# Altium integrated library TI Logic Counter.IntLib: 650 symbols (part 12 of 14)
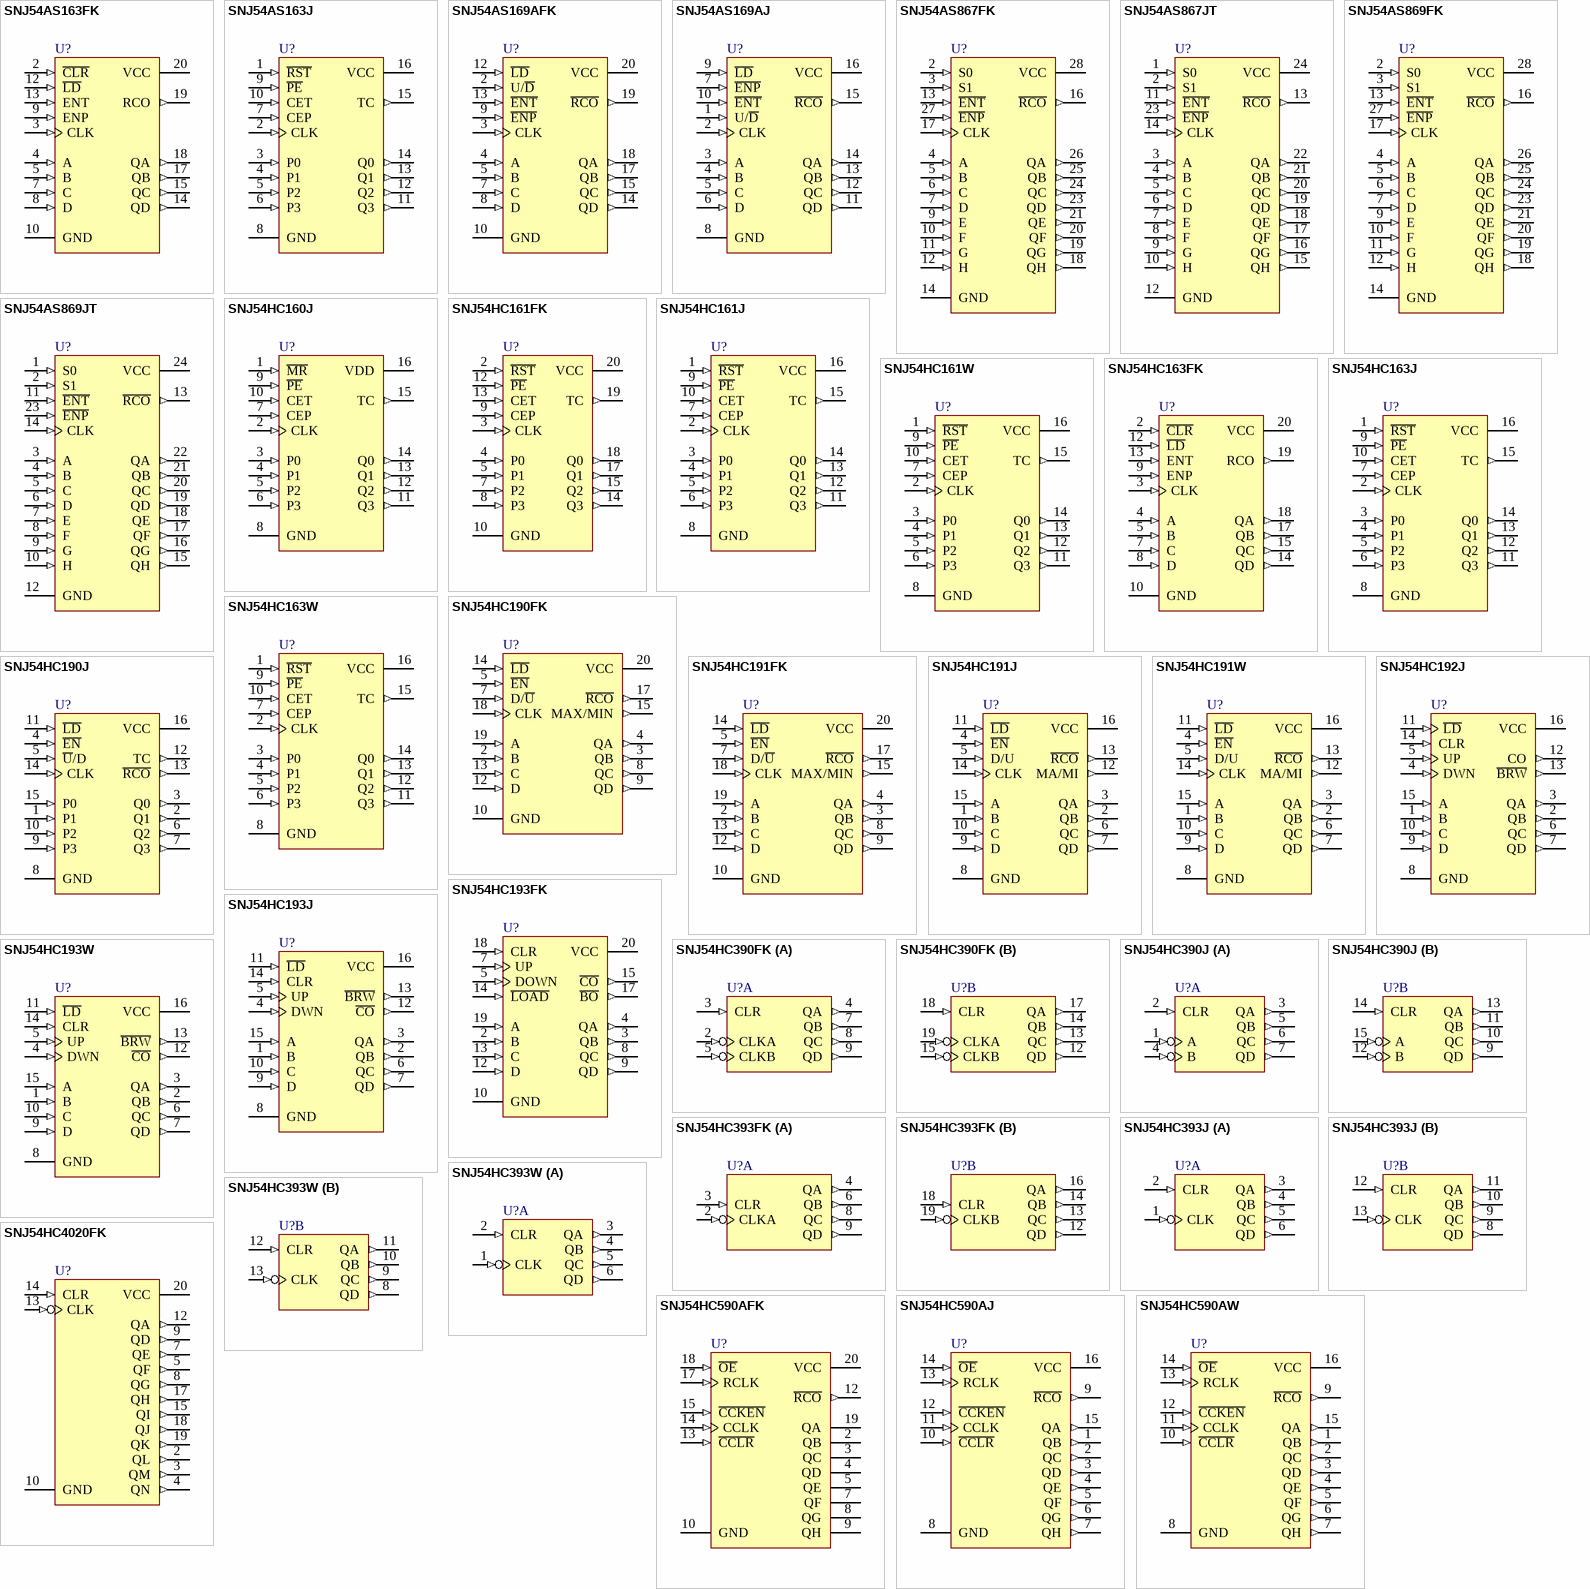
[diagram p31: symbols SNJ54AS163FK to SNJ54HC4020FK]

## SNJ54HC4020FK
designator U?
14-Bit Asynchronous Binary Counter; Note: Pins 1, 6, 11 and 16 - no connection and not drawn.; Published: 8-Jun-2000; LatestRevisionDate: 17-Jul-2002; LatestRevisionNote: Re-released for DXP Platform.; DatasheetVersion: May-1997; PackageVersion: 1998; PackageReference: FK020; Publisher: Altium Limited; PackageDescription: Leadless Chip Carrier; 20 Terminals; Body 8.9 x 8.9 mm; ComponentLink1Description: Manufacturer Link; ComponentLink1URL: http://www.ti.com/; ComponentLink2Description: Datasheet; ComponentLink2URL: http://www-s.ti.com/sc/ds/sn74hc4020.pdf
footprint FK020 (Leadless Chip Carrier; 20 Terminals; Body 8.9 x 8.9 mm)
signal-integrity model SNJ54HC4020FK
pins: 2 QL (out), 3 QM (out), 4 QN (out), 5 QF (out), 7 QE (out), 8 QG (out), 9 QD (out), 10 GND (power), 12 QA (out), 13 CLK (in), 14 CLR (in), 15 QI (out), 17 QH (out), 18 QJ (out), 19 QK (out), 20 VCC (power)

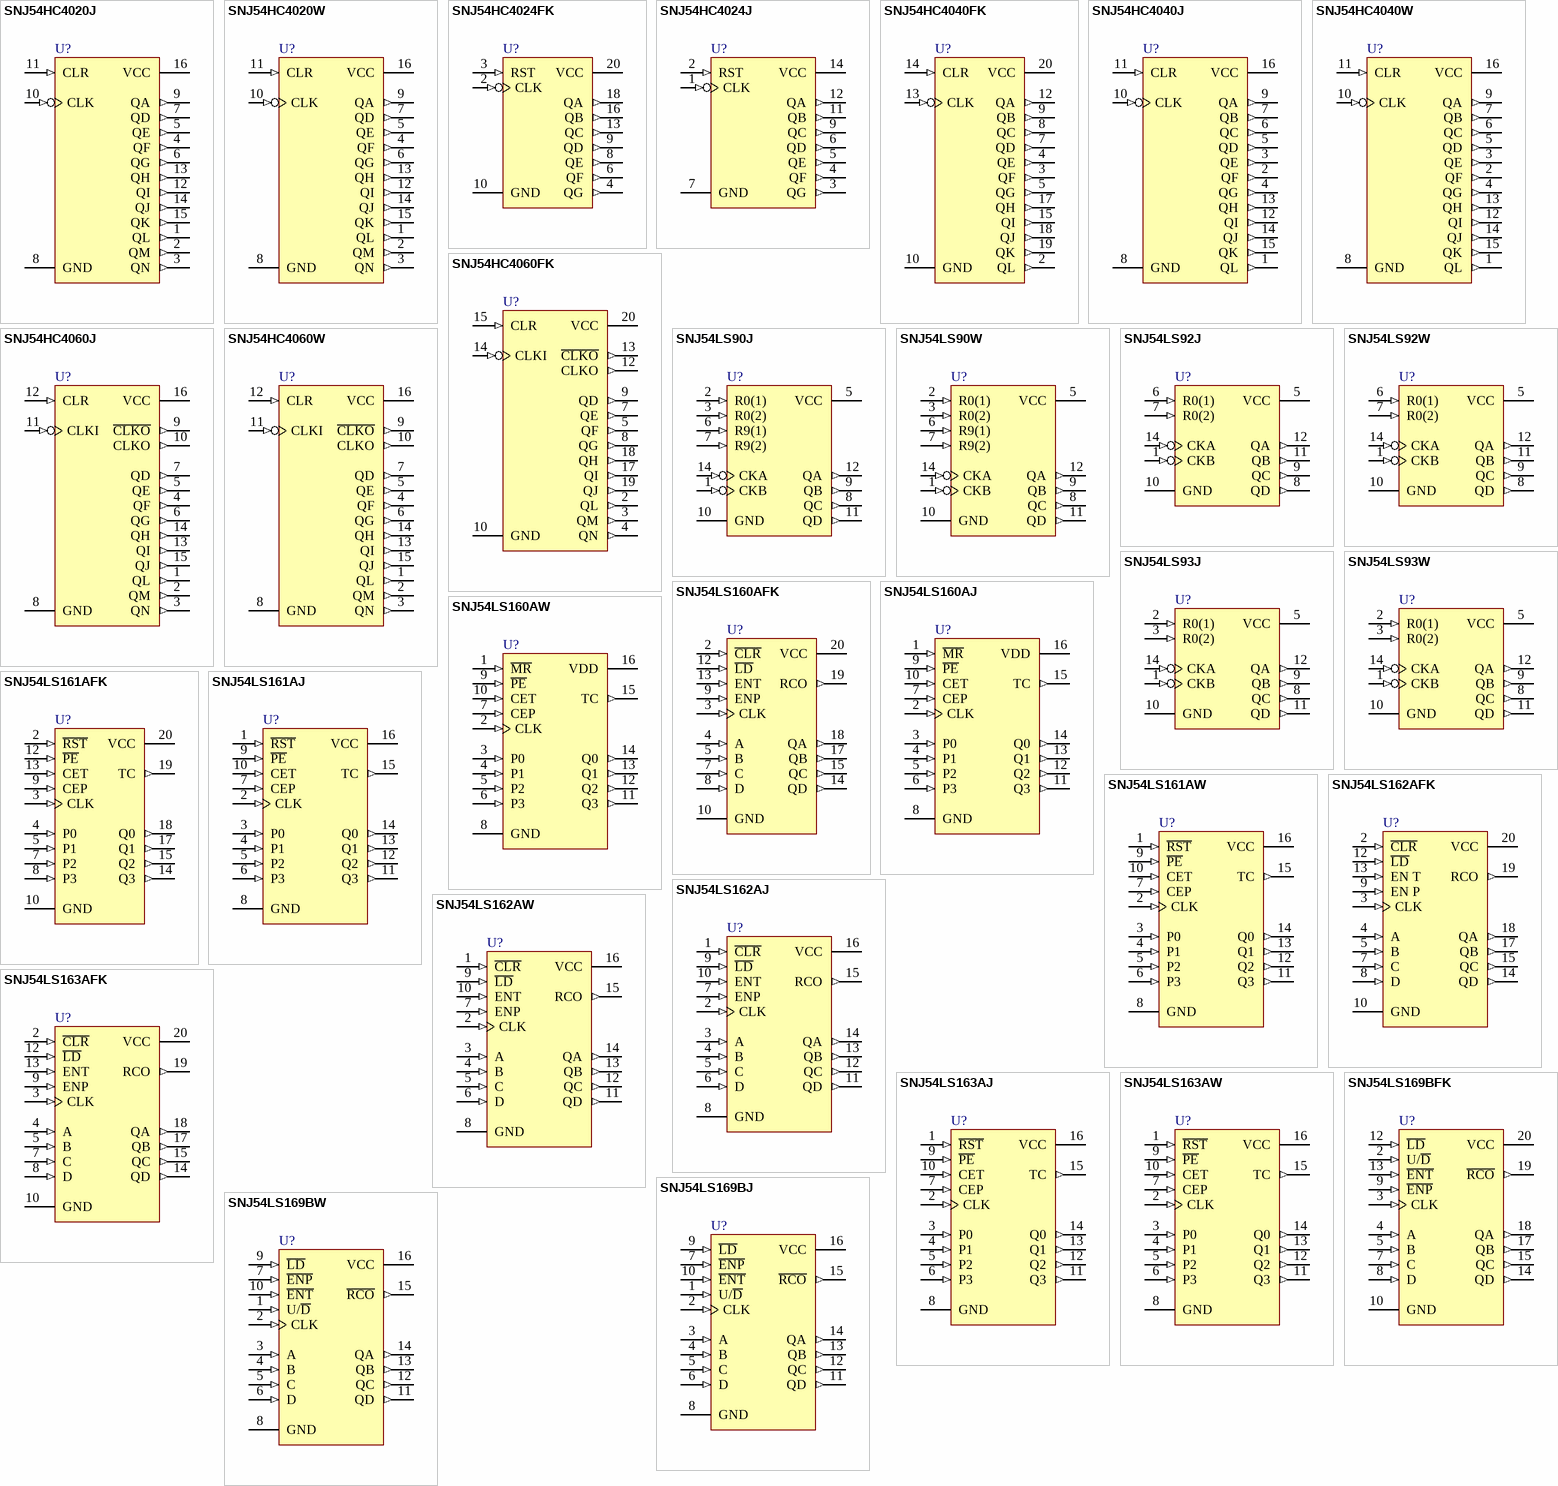
[diagram p17: symbols SNJ54HC4020J to SNJ54LS169BW]

## SNJ54HC4020J
designator U?
14-Bit Asynchronous Binary Counter; Published: 8-Jun-2000; LatestRevisionDate: 04-Mar-2005; LatestRevisionNote: Stylized 3D Model Added.; DatasheetVersion: May-1997; PackageVersion: Jun-1999; PackageReference: J016; Publisher: Altium Limited; PackageDescription: DIP; 16 Leads; Row Spacing 7.62 mm; Pitch 2.54 mm; ComponentLink1Description: Manufacturer Link; ComponentLink1URL: http://www.ti.com/; ComponentLink2Description: Datasheet; ComponentLink2URL: http://www-s.ti.com/sc/ds/sn74hc4020.pdf
footprint J016 (DIP; 16 Leads; Row Spacing 7.62 mm; Pitch 2.54 mm)
3D model J016 (DIP; 16 Leads; Row Spacing 7.62 mm; Pitch 2.54 mm)
signal-integrity model SNJ54HC4020J
pins: 1 QL (out), 2 QM (out), 3 QN (out), 4 QF (out), 5 QE (out), 6 QG (out), 7 QD (out), 8 GND (power), 9 QA (out), 10 CLK (in), 11 CLR (in), 12 QI (out), 13 QH (out), 14 QJ (out), 15 QK (out), 16 VCC (power)

## SNJ54HC4020W
designator U?
14-Bit Asynchronous Binary Counter; Published: 8-Jun-2000; LatestRevisionDate: 04-Mar-2005; LatestRevisionNote: Stylized 3D Model Added.; DatasheetVersion: May-1997; PackageVersion: Jan-1995; PackageReference: W016; Publisher: Altium Limited; PackageDescription: DFP; 16 Leads; Body 10.9 x 7.2 mm (LxW max); Pitch 1.27 mm; Code_JEDEC: MO-092-AC; ComponentLink1Description: Manufacturer Link; ComponentLink1URL: http://www.ti.com/; ComponentLink2Description: Datasheet; ComponentLink2URL: http://www-s.ti.com/sc/ds/sn74hc4020.pdf
footprint W016 (DFP; 16 Leads; Body 10.9 x 7.2 mm (LxW max); Pitch 1.27 mm)
3D model W016 (DFP; 16 Leads; Body 10.9 x 7.2 mm (LxW max); Pitch 1.27 mm)
signal-integrity model SNJ54HC4020W
pins: 1 QL (out), 2 QM (out), 3 QN (out), 4 QF (out), 5 QE (out), 6 QG (out), 7 QD (out), 8 GND (power), 9 QA (out), 10 CLK (in), 11 CLR (in), 12 QI (out), 13 QH (out), 14 QJ (out), 15 QK (out), 16 VCC (power)

## SNJ54HC4024FK
designator U?
Asynchronous 7-Bit Binary Counter; Note: Pins 1, 5, 7, 11, 12, 14, 15 and 17 - no connection and not drawn; Published: 8-Jun-2000; LatestRevisionDate: 17-Jul-2002; LatestRevisionNote: Re-released for DXP Platform.; DatasheetVersion: Jun-1989; PackageVersion: 1998; PackageReference: FK020; Publisher: Altium Limited; PackageDescription: Leadless Chip Carrier; 20 Terminals; Body 8.9 x 8.9 mm; ComponentLink1Description: Manufacturer Link; ComponentLink1URL: http://www.ti.com/; ComponentLink2Description: Datasheet; ComponentLink2URL: http://www-s.ti.com/sc/ds/sn54hc4024.pdf
footprint FK020 (Leadless Chip Carrier; 20 Terminals; Body 8.9 x 8.9 mm)
signal-integrity model SNJ54HC4024FK
pins: 2 CLK (in), 3 RST (in), 4 QG (out), 6 QF (out), 8 QE (out), 9 QD (out), 10 GND (power), 13 QC (out), 16 QB (out), 18 QA (out), 20 VCC (power)

## SNJ54HC4024J
designator U?
Asynchronous 7-Bit Binary Counter; Note: Pins 8, 10 and 13 - no connection and not drawn.; Published: 8-Jun-2000; LatestRevisionDate: 04-Mar-2005; LatestRevisionNote: Stylized 3D Model Added.; DatasheetVersion: Jun-1989; PackageVersion: Jun-1999; PackageReference: J014; Publisher: Altium Limited; PackageDescription: DIP; 14 Leads; Row Spacing 7.62 mm; Pitch 2.54 mm; ComponentLink1Description: Manufacturer Link; ComponentLink1URL: http://www.ti.com/; ComponentLink2Description: Datasheet; ComponentLink2URL: http://www-s.ti.com/sc/ds/sn54hc4024.pdf
footprint J014 (DIP; 14 Leads; Row Spacing 7.62 mm; Pitch 2.54 mm)
3D model J014 (DIP; 14 Leads; Row Spacing 7.62 mm; Pitch 2.54 mm)
signal-integrity model SNJ54HC4024J
pins: 1 CLK (in), 2 RST (in), 3 QG (out), 4 QF (out), 5 QE (out), 6 QD (out), 7 GND (power), 9 QC (out), 11 QB (out), 12 QA (out), 14 VCC (power)

## SNJ54HC4040FK
designator U?
12-Bit Asynchronous Binary Counter; Note: Pins 1, 6, 11 and 16 - no connection and not drawn.; Published: 8-Jun-2000; LatestRevisionDate: 17-Jul-2002; LatestRevisionNote: Re-released for DXP Platform.; DatasheetVersion: May-1997; PackageVersion: 1998; PackageReference: FK020; Publisher: Altium Limited; PackageDescription: Leadless Chip Carrier; 20 Terminals; Body 8.9 x 8.9 mm; ComponentLink1Description: Manufacturer Link; ComponentLink1URL: http://www.ti.com/; ComponentLink2Description: Datasheet; ComponentLink2URL: http://www-s.ti.com/sc/ds/sn74hc4040.pdf
footprint FK020 (Leadless Chip Carrier; 20 Terminals; Body 8.9 x 8.9 mm)
signal-integrity model SNJ54HC4040FK
pins: 2 QL (out), 3 QF (out), 4 QE (out), 5 QG (out), 7 QD (out), 8 QC (out), 9 QB (out), 10 GND (power), 12 QA (out), 13 CLK (in), 14 CLR (in), 15 QI (out), 17 QH (out), 18 QJ (out), 19 QK (out), 20 VCC (power)

## SNJ54HC4040J
designator U?
12-Bit Asynchronous Binary Counter; Published: 8-Jun-2000; LatestRevisionDate: 04-Mar-2005; LatestRevisionNote: Stylized 3D Model Added.; DatasheetVersion: May-1997; PackageVersion: Jun-1999; PackageReference: J016; Publisher: Altium Limited; PackageDescription: DIP; 16 Leads; Row Spacing 7.62 mm; Pitch 2.54 mm; ComponentLink1Description: Manufacturer Link; ComponentLink1URL: http://www.ti.com/; ComponentLink2Description: Datasheet; ComponentLink2URL: http://www-s.ti.com/sc/ds/sn74hc4040.pdf
footprint J016 (DIP; 16 Leads; Row Spacing 7.62 mm; Pitch 2.54 mm)
3D model J016 (DIP; 16 Leads; Row Spacing 7.62 mm; Pitch 2.54 mm)
signal-integrity model SNJ54HC4040J
pins: 1 QL (out), 2 QF (out), 3 QE (out), 4 QG (out), 5 QD (out), 6 QC (out), 7 QB (out), 8 GND (power), 9 QA (out), 10 CLK (in), 11 CLR (in), 12 QI (out), 13 QH (out), 14 QJ (out), 15 QK (out), 16 VCC (power)

## SNJ54HC4040W
designator U?
12-Bit Asynchronous Binary Counter; Published: 8-Jun-2000; LatestRevisionDate: 04-Mar-2005; LatestRevisionNote: Stylized 3D Model Added.; DatasheetVersion: May-1997; PackageVersion: Jan-1995; PackageReference: W016; Publisher: Altium Limited; PackageDescription: DFP; 16 Leads; Body 10.9 x 7.2 mm (LxW max); Pitch 1.27 mm; Code_JEDEC: MO-092-AC; ComponentLink1Description: Manufacturer Link; ComponentLink1URL: http://www.ti.com/; ComponentLink2Description: Datasheet; ComponentLink2URL: http://www-s.ti.com/sc/ds/sn74hc4040.pdf
footprint W016 (DFP; 16 Leads; Body 10.9 x 7.2 mm (LxW max); Pitch 1.27 mm)
3D model W016 (DFP; 16 Leads; Body 10.9 x 7.2 mm (LxW max); Pitch 1.27 mm)
signal-integrity model SNJ54HC4040W
pins: 1 QL (out), 2 QF (out), 3 QE (out), 4 QG (out), 5 QD (out), 6 QC (out), 7 QB (out), 8 GND (power), 9 QA (out), 10 CLK (in), 11 CLR (in), 12 QI (out), 13 QH (out), 14 QJ (out), 15 QK (out), 16 VCC (power)

## SNJ54HC4060FK
designator U?
Asynchronous 14-Stage Binary Counter and Oscillator; Note: Pins 1, 6, 11 and 16 - no connection and not drawn.; Published: 8-Jun-2000; LatestRevisionDate: 17-Jul-2002; LatestRevisionNote: Re-released for DXP Platform.; DatasheetVersion: Jun-1989; PackageVersion: 1998; PackageReference: FK020; Publisher: Altium Limited; PackageDescription: Leadless Chip Carrier; 20 Terminals; Body 8.9 x 8.9 mm; ComponentLink1Description: Manufacturer Link; ComponentLink1URL: http://www.ti.com/; ComponentLink2Description: Datasheet; ComponentLink2URL: http://www-s.ti.com/sc/ds/sn54hc4060.pdf
footprint FK020 (Leadless Chip Carrier; 20 Terminals; Body 8.9 x 8.9 mm)
signal-integrity model SNJ54HC4060FK
pins: 2 QL (out), 3 QM (out), 4 QN (out), 5 QF (out), 7 QE (out), 8 QG (out), 9 QD (out), 10 GND (power), 12 CLKO (out), 13 ~{CLKO} (out), 14 CLKI (in), 15 CLR (in), 17 QI (out), 18 QH (out), 19 QJ (out), 20 VCC (power)

## SNJ54HC4060J
designator U?
Asynchronous 14-Stage Binary Counter and Oscillator; Published: 8-Jun-2000; LatestRevisionDate: 04-Mar-2005; LatestRevisionNote: Stylized 3D Model Added.; DatasheetVersion: Jun-1989; PackageVersion: Jun-1999; PackageReference: J016D; Publisher: Altium Limited; PackageDescription: DIP; 16 Leads; Row Spacing 7.62 mm; Pitch 2.54 mm; ComponentLink1Description: Manufacturer Link; ComponentLink1URL: http://www.ti.com/; ComponentLink2Description: Datasheet; ComponentLink2URL: http://www-s.ti.com/sc/ds/sn54hc4060.pdf
footprint J016D (DIP; 16 Leads; Row Spacing 7.62 mm; Pitch 2.54 mm)
3D model J016 (DIP; 16 Leads; Row Spacing 7.62 mm; Pitch 2.54 mm)
signal-integrity model SNJ54HC4060J
pins: 1 QL (out), 2 QM (out), 3 QN (out), 4 QF (out), 5 QE (out), 6 QG (out), 7 QD (out), 8 GND (power), 9 ~{CLKO} (out), 10 CLKO (out), 11 CLKI (in), 12 CLR (in), 13 QI (out), 14 QH (out), 15 QJ (out), 16 VCC (power)

## SNJ54HC4060W
designator U?
14-Stage Asynchronous Binary Counter and Oscillator; Published: 8-Jun-2000; LatestRevisionDate: 04-Mar-2005; LatestRevisionNote: Stylized 3D Model Added.; DatasheetVersion: May-1997; PackageVersion: Jan-1995; PackageReference: W016; Publisher: Altium Limited; PackageDescription: DFP; 16 Leads; Body 10.9 x 7.2 mm (LxW max); Pitch 1.27 mm; Code_JEDEC: MO-092-AC; ComponentLink1Description: Manufacturer Link; ComponentLink1URL: http://www.ti.com/
footprint W016 (DFP; 16 Leads; Body 10.9 x 7.2 mm (LxW max); Pitch 1.27 mm)
3D model W016 (DFP; 16 Leads; Body 10.9 x 7.2 mm (LxW max); Pitch 1.27 mm)
signal-integrity model SNJ54HC4060W
pins: 1 QL (out), 2 QM (out), 3 QN (out), 4 QF (out), 5 QE (out), 6 QG (out), 7 QD (out), 8 GND (power), 9 ~{CLKO} (out), 10 CLKO (out), 11 CLKI (in), 12 CLR (in), 13 QI (out), 14 QH (out), 15 QJ (out), 16 VCC (power)

## SNJ54LS90J
designator U?
Decade Counter; Note: Pins 4 and 13 are NC & are not drawn.; Published: 8-Jun-2000; LatestRevisionDate: 04-Mar-2005; LatestRevisionNote: Stylized 3D Model Added.; DatasheetVersion: Mar-1988; PackageVersion: Jun-1999; PackageReference: J014D; Publisher: Altium Limited; PackageDescription: DIP; 14 Leads; Row Spacing 7.62 mm; Pitch 2.54 mm; ComponentLink1Description: Manufacturer Link; ComponentLink1URL: http://www.ti.com/; ComponentLink2Description: Datasheet; ComponentLink2URL: http://www-s.ti.com/sc/ds/sn74ls92.pdf
footprint J014D (DIP; 14 Leads; Row Spacing 7.62 mm; Pitch 2.54 mm)
3D model J014 (DIP; 14 Leads; Row Spacing 7.62 mm; Pitch 2.54 mm)
simulation model SN74LS90 (SIMCODE)
signal-integrity model SNJ54LS90J
pins: 1 CKB (in), 2 R0(1) (in), 3 R0(2) (in), 5 VCC (power), 6 R9(1) (in), 7 R9(2) (in), 8 QC (out), 9 QB (out), 10 GND (power), 11 QD (out), 12 QA (out), 14 CKA (in)

## SNJ54LS90W
designator U?
Decade Counter; Note: Pins 4 and 13 are NC & are not drawn.; Published: 8-Jun-2000; LatestRevisionDate: 04-Mar-2005; LatestRevisionNote: Stylized 3D Model Added.; DatasheetVersion: Mar-1988; PackageVersion: Jan-1995; PackageReference: W014; Publisher: Altium Limited; PackageDescription: DFP; 14 Leads; Body 9.9 x 6.6 mm (LxW max); Pitch 1.27 mm; Code_JEDEC: MO-092-AB; ComponentLink1Description: Manufacturer Link; ComponentLink1URL: http://www.ti.com/; ComponentLink2Description: Datasheet; ComponentLink2URL: http://www-s.ti.com/sc/ds/sn74ls92.pdf
footprint W014 (DFP; 14 Leads; Body 9.9 x 6.6 mm (LxW max); Pitch 1.27 mm)
3D model W014 (DFP; 14 Leads; Body 9.9 x 6.6 mm (LxW max); Pitch 1.27 mm)
simulation model SN74LS90 (SIMCODE)
signal-integrity model SNJ54LS90W
pins: 1 CKB (in), 2 R0(1) (in), 3 R0(2) (in), 5 VCC (power), 6 R9(1) (in), 7 R9(2) (in), 8 QC (out), 9 QB (out), 10 GND (power), 11 QD (out), 12 QA (out), 14 CKA (in)

## SNJ54LS92J
designator U?
Divide-by-Twelve Counter; Note: Pins 2, 3, 4 and 13 are NC & are not drawn.; Published: 8-Jun-2000; LatestRevisionDate: 04-Mar-2005; LatestRevisionNote: Stylized 3D Model Added.; DatasheetVersion: Mar-1988; PackageVersion: Jun-1999; PackageReference: J014D; Publisher: Altium Limited; PackageDescription: DIP; 14 Leads; Row Spacing 7.62 mm; Pitch 2.54 mm; ComponentLink1Description: Manufacturer Link; ComponentLink1URL: http://www.ti.com/; ComponentLink2Description: Datasheet; ComponentLink2URL: http://www-s.ti.com/sc/ds/sn74ls92.pdf
footprint J014D (DIP; 14 Leads; Row Spacing 7.62 mm; Pitch 2.54 mm)
3D model J014 (DIP; 14 Leads; Row Spacing 7.62 mm; Pitch 2.54 mm)
simulation model SN74LS92 (SIMCODE)
signal-integrity model SNJ54LS92J
pins: 1 CKB (in), 5 VCC (power), 6 R0(1) (in), 7 R0(2) (in), 8 QD (out), 9 QC (out), 10 GND (power), 11 QB (out), 12 QA (out), 14 CKA (in)

## SNJ54LS92W
designator U?
Divide-by-Twelve Counter; Note: Pins 2, 3, 4 and 13 are NC & are not drawn.; Published: 8-Jun-2000; LatestRevisionDate: 04-Mar-2005; LatestRevisionNote: Stylized 3D Model Added.; DatasheetVersion: Mar-1988; PackageVersion: Jan-1995; PackageReference: W014; Publisher: Altium Limited; PackageDescription: DFP; 14 Leads; Body 9.9 x 6.6 mm (LxW max); Pitch 1.27 mm; Code_JEDEC: MO-092-AB; ComponentLink1Description: Manufacturer Link; ComponentLink1URL: http://www.ti.com/; ComponentLink2Description: Datasheet; ComponentLink2URL: http://www-s.ti.com/sc/ds/sn74ls92.pdf
footprint W014 (DFP; 14 Leads; Body 9.9 x 6.6 mm (LxW max); Pitch 1.27 mm)
3D model W014 (DFP; 14 Leads; Body 9.9 x 6.6 mm (LxW max); Pitch 1.27 mm)
simulation model SN74LS92 (SIMCODE)
signal-integrity model SNJ54LS92W
pins: 1 CKB (in), 5 VCC (power), 6 R0(1) (in), 7 R0(2) (in), 8 QD (out), 9 QC (out), 10 GND (power), 11 QB (out), 12 QA (out), 14 CKA (in)

## SNJ54LS93J
designator U?
4-Bit Binary Counter; Note: Pins 4, 6, 7 and 13 are NC & are not drawn.; Published: 8-Jun-2000; LatestRevisionDate: 04-Mar-2005; LatestRevisionNote: Stylized 3D Model Added.; DatasheetVersion: Mar-1988; PackageVersion: Jun-1999; PackageReference: J014D; Publisher: Altium Limited; PackageDescription: DIP; 14 Leads; Row Spacing 7.62 mm; Pitch 2.54 mm; ComponentLink1Description: Manufacturer Link; ComponentLink1URL: http://www.ti.com/; ComponentLink2Description: Datasheet; ComponentLink2URL: http://www-s.ti.com/sc/ds/sn74ls92.pdf
footprint J014D (DIP; 14 Leads; Row Spacing 7.62 mm; Pitch 2.54 mm)
3D model J014 (DIP; 14 Leads; Row Spacing 7.62 mm; Pitch 2.54 mm)
simulation model SN74LS93 (SIMCODE)
signal-integrity model SNJ54LS93J
pins: 1 CKB (in), 2 R0(1) (in), 3 R0(2) (in), 5 VCC (power), 8 QC (out), 9 QB (out), 10 GND (power), 11 QD (out), 12 QA (out), 14 CKA (in)

## SNJ54LS93W
designator U?
4-Bit Binary Counter; Note: Pins 4, 6, 7 and 13 are NC & are not drawn.; Published: 8-Jun-2000; LatestRevisionDate: 04-Mar-2005; LatestRevisionNote: Stylized 3D Model Added.; DatasheetVersion: Mar-1988; PackageVersion: Jan-1995; PackageReference: W014; Publisher: Altium Limited; PackageDescription: DFP; 14 Leads; Body 9.9 x 6.6 mm (LxW max); Pitch 1.27 mm; Code_JEDEC: MO-092-AB; ComponentLink1Description: Manufacturer Link; ComponentLink1URL: http://www.ti.com/; ComponentLink2Description: Datasheet; ComponentLink2URL: http://www-s.ti.com/sc/ds/sn74ls92.pdf
footprint W014 (DFP; 14 Leads; Body 9.9 x 6.6 mm (LxW max); Pitch 1.27 mm)
3D model W014 (DFP; 14 Leads; Body 9.9 x 6.6 mm (LxW max); Pitch 1.27 mm)
simulation model SN74LS93 (SIMCODE)
signal-integrity model SNJ54LS93W
pins: 1 CKB (in), 2 R0(1) (in), 3 R0(2) (in), 5 VCC (power), 8 QC (out), 9 QB (out), 10 GND (power), 11 QD (out), 12 QA (out), 14 CKA (in)

## SNJ54LS160AFK
designator U?
Synchronous 4-Bit Counter; Note: Pins 1, 6, 11 and 16 are NC & are not drawn.; Published: 8-Jun-2000; LatestRevisionDate: 17-Jul-2002; LatestRevisionNote: Re-released for DXP Platform.; DatasheetVersion: Mar-1988; PackageVersion: 1998; PackageReference: FK020; Publisher: Altium Limited; PackageDescription: Leadless Chip Carrier; 20 Terminals; Body 8.9 x 8.9 mm; ComponentLink1Description: Manufacturer Link; ComponentLink1URL: http://www.ti.com/; ComponentLink2Description: Datasheet; ComponentLink2URL: http://www-s.ti.com/sc/ds/sn54ls160a.pdf
footprint FK020 (Leadless Chip Carrier; 20 Terminals; Body 8.9 x 8.9 mm)
simulation model SN74LS160A (SIMCODE)
signal-integrity model SNJ54LS160AFK
pins: 2 ~{CLR} (in), 3 CLK (in), 4 A (in), 5 B (in), 7 C (in), 8 D (in), 9 ENP (in), 10 GND (power), 12 ~{LD} (in), 13 ENT (in), 14 QD (out), 15 QC (out), 17 QB (out), 18 QA (out), 19 RCO (out), 20 VCC (power)

## SNJ54LS160AJ
designator U?
Synchronous 4-Bit Counter; Published: 8-Jun-2000; LatestRevisionDate: 04-Mar-2005; LatestRevisionNote: Stylized 3D Model Added.; DatasheetVersion: Mar-1988; PackageVersion: Jun-1999; PackageReference: J016D; Publisher: Altium Limited; PackageDescription: DIP; 16 Leads; Row Spacing 7.62 mm; Pitch 2.54 mm; ComponentLink1Description: Manufacturer Link; ComponentLink1URL: http://www.ti.com/; ComponentLink2Description: Datasheet; ComponentLink2URL: http://www-s.ti.com/sc/ds/sn54ls160a.pdf
footprint J016D (DIP; 16 Leads; Row Spacing 7.62 mm; Pitch 2.54 mm)
3D model J016 (DIP; 16 Leads; Row Spacing 7.62 mm; Pitch 2.54 mm)
simulation model SN74LS160A (SIMCODE)
signal-integrity model SNJ54LS160AJ
pins: 1 ~{MR} (in), 2 CLK (in), 3 P0 (in), 4 P1 (in), 5 P2 (in), 6 P3 (in), 7 CEP (in), 8 GND (power), 9 ~{PE} (in), 10 CET (in), 11 Q3 (out), 12 Q2 (out), 13 Q1 (out), 14 Q0 (out), 15 TC (out), 16 VDD (power)

## SNJ54LS160AW
designator U?
Synchronous 4-Bit Counter; Published: 8-Jun-2000; LatestRevisionDate: 04-Mar-2005; LatestRevisionNote: Stylized 3D Model Added.; DatasheetVersion: Mar-1988; PackageVersion: Jan-1995; PackageReference: W016; Publisher: Altium Limited; PackageDescription: DFP; 16 Leads; Body 10.9 x 7.2 mm (LxW max); Pitch 1.27 mm; Code_JEDEC: MO-092-AC; ComponentLink1Description: Manufacturer Link; ComponentLink1URL: http://www.ti.com/; ComponentLink2Description: Datasheet; ComponentLink2URL: http://www-s.ti.com/sc/ds/sn54ls160a.pdf
footprint W016 (DFP; 16 Leads; Body 10.9 x 7.2 mm (LxW max); Pitch 1.27 mm)
3D model W016 (DFP; 16 Leads; Body 10.9 x 7.2 mm (LxW max); Pitch 1.27 mm)
simulation model SN74LS160A (SIMCODE)
signal-integrity model SNJ54LS160AW
pins: 1 ~{MR} (in), 2 CLK (in), 3 P0 (in), 4 P1 (in), 5 P2 (in), 6 P3 (in), 7 CEP (in), 8 GND (power), 9 ~{PE} (in), 10 CET (in), 11 Q3 (out), 12 Q2 (out), 13 Q1 (out), 14 Q0 (out), 15 TC (out), 16 VDD (power)

## SNJ54LS161AFK
designator U?
Synchronous 4-Bit Counter; Note: Pins 1, 6, 11 and 16 are NC & are not drawn.; Published: 8-Jun-2000; LatestRevisionDate: 17-Jul-2002; LatestRevisionNote: Re-released for DXP Platform.; DatasheetVersion: Mar-1988; PackageVersion: 1998; PackageReference: FK020; Publisher: Altium Limited; PackageDescription: Leadless Chip Carrier; 20 Terminals; Body 8.9 x 8.9 mm; ComponentLink1Description: Manufacturer Link; ComponentLink1URL: http://www.ti.com/; ComponentLink2Description: Datasheet; ComponentLink2URL: http://www-s.ti.com/sc/ds/sn74ls161a.pdf; ComponentLink3Description: URL Link1; ComponentLink3URL: http://focus.ti.com/docs/prod/folders/print/sn54ls161a.html
footprint FK020 (Leadless Chip Carrier; 20 Terminals; Body 8.9 x 8.9 mm)
simulation model SN74LS161A (SIMCODE)
signal-integrity model SNJ54LS161AFK
pins: 2 ~{RST} (in), 3 CLK (in), 4 P0 (in), 5 P1 (in), 7 P2 (in), 8 P3 (in), 9 CEP (in), 10 GND (power), 12 ~{PE} (in), 13 CET (in), 14 Q3 (out), 15 Q2 (out), 17 Q1 (out), 18 Q0 (out), 19 TC (out), 20 VCC (power)

## SNJ54LS161AJ
designator U?
Synchronous 4-Bit Counter; Published: 8-Jun-2000; LatestRevisionDate: 04-Mar-2005; LatestRevisionNote: Stylized 3D Model Added.; DatasheetVersion: Mar-1988; PackageVersion: Jun-1999; PackageReference: J016; Publisher: Altium Limited; PackageDescription: DIP; 16 Leads; Row Spacing 7.62 mm; Pitch 2.54 mm; ComponentLink1Description: Manufacturer Link; ComponentLink1URL: http://www.ti.com/; ComponentLink2Description: Datasheet; ComponentLink2URL: http://www-s.ti.com/sc/ds/sn74ls161a.pdf; ComponentLink3Description: URL Link1; ComponentLink3URL: http://focus.ti.com/docs/prod/folders/print/sn54ls161a.html
footprint J016 (DIP; 16 Leads; Row Spacing 7.62 mm; Pitch 2.54 mm)
3D model J016 (DIP; 16 Leads; Row Spacing 7.62 mm; Pitch 2.54 mm)
simulation model SN74LS161A (SIMCODE)
signal-integrity model SNJ54LS161AJ
pins: 1 ~{RST} (in), 2 CLK (in), 3 P0 (in), 4 P1 (in), 5 P2 (in), 6 P3 (in), 7 CEP (in), 8 GND (power), 9 ~{PE} (in), 10 CET (in), 11 Q3 (out), 12 Q2 (out), 13 Q1 (out), 14 Q0 (out), 15 TC (out), 16 VCC (power)

## SNJ54LS161AW
designator U?
Synchronous 4-Bit Counter; Published: 8-Jun-2000; LatestRevisionDate: 04-Mar-2005; LatestRevisionNote: Stylized 3D Model Added.; DatasheetVersion: Mar-1988; PackageVersion: Jan-1995; PackageReference: W016; Publisher: Altium Limited; PackageDescription: DFP; 16 Leads; Body 10.9 x 7.2 mm (LxW max); Pitch 1.27 mm; Code_JEDEC: MO-092-AC; ComponentLink1Description: Manufacturer Link; ComponentLink1URL: http://www.ti.com/; ComponentLink2Description: Datasheet; ComponentLink2URL: http://www-s.ti.com/sc/ds/sn74ls161a.pdf; ComponentLink3Description: URL Link1; ComponentLink3URL: http://focus.ti.com/docs/prod/folders/print/sn54ls161a.html
footprint W016 (DFP; 16 Leads; Body 10.9 x 7.2 mm (LxW max); Pitch 1.27 mm)
3D model W016 (DFP; 16 Leads; Body 10.9 x 7.2 mm (LxW max); Pitch 1.27 mm)
simulation model SN74LS161A (SIMCODE)
signal-integrity model SNJ54LS161AW
pins: 1 ~{RST} (in), 2 CLK (in), 3 P0 (in), 4 P1 (in), 5 P2 (in), 6 P3 (in), 7 CEP (in), 8 GND (power), 9 ~{PE} (in), 10 CET (in), 11 Q3 (out), 12 Q2 (out), 13 Q1 (out), 14 Q0 (out), 15 TC (out), 16 VCC (power)

## SNJ54LS162AFK
designator U?
Synchronous 4-Bit Counter; Note: Pins 1, 6, 11 and 16 are NC & are not drawn.; Published: 8-Jun-2000; LatestRevisionDate: 17-Jul-2002; LatestRevisionNote: Re-released for DXP Platform.; DatasheetVersion: Mar-1988; PackageVersion: 1998; PackageReference: FK020; Publisher: Altium Limited; PackageDescription: Leadless Chip Carrier; 20 Terminals; Body 8.9 x 8.9 mm; ComponentLink1Description: Manufacturer Link; ComponentLink1URL: http://www.ti.com/; ComponentLink2Description: Datasheet; ComponentLink2URL: http://www-s.ti.com/sc/ds/sn54ls160a.pdf
footprint FK020 (Leadless Chip Carrier; 20 Terminals; Body 8.9 x 8.9 mm)
simulation model SN74LS162A (SIMCODE)
signal-integrity model SNJ54LS162AFK
pins: 2 ~{CLR} (in), 3 CLK (in), 4 A (in), 5 B (in), 7 C (in), 8 D (in), 9 EN P (in), 10 GND (power), 12 ~{LD} (in), 13 EN T (in), 14 QD (out), 15 QC (out), 17 QB (out), 18 QA (out), 19 RCO (out), 20 VCC (power)

## SNJ54LS162AJ
designator U?
Synchronous 4-Bit Counter; Published: 8-Jun-2000; LatestRevisionDate: 04-Mar-2005; LatestRevisionNote: Stylized 3D Model Added.; DatasheetVersion: Mar-1988; PackageVersion: Jun-1999; PackageReference: J016D; Publisher: Altium Limited; PackageDescription: DIP; 16 Leads; Row Spacing 7.62 mm; Pitch 2.54 mm; ComponentLink1Description: Manufacturer Link; ComponentLink1URL: http://www.ti.com/; ComponentLink2Description: Datasheet; ComponentLink2URL: http://www-s.ti.com/sc/ds/sn54ls160a.pdf
footprint J016D (DIP; 16 Leads; Row Spacing 7.62 mm; Pitch 2.54 mm)
3D model J016 (DIP; 16 Leads; Row Spacing 7.62 mm; Pitch 2.54 mm)
simulation model SN74LS162A (SIMCODE)
signal-integrity model SNJ54LS162AJ
pins: 1 ~{CLR} (in), 2 CLK (in), 3 A (in), 4 B (in), 5 C (in), 6 D (in), 7 ENP (in), 8 GND (power), 9 ~{LD} (in), 10 ENT (in), 11 QD (out), 12 QC (out), 13 QB (out), 14 QA (out), 15 RCO (out), 16 VCC (power)

## SNJ54LS162AW
designator U?
Synchronous 4-Bit Counter; Published: 8-Jun-2000; LatestRevisionDate: 04-Mar-2005; LatestRevisionNote: Stylized 3D Model Added.; DatasheetVersion: Mar-1988; PackageVersion: Jan-1995; PackageReference: W016; Publisher: Altium Limited; PackageDescription: DFP; 16 Leads; Body 10.9 x 7.2 mm (LxW max); Pitch 1.27 mm; Code_JEDEC: MO-092-AC; ComponentLink1Description: Manufacturer Link; ComponentLink1URL: http://www.ti.com/; ComponentLink2Description: Datasheet; ComponentLink2URL: http://www-s.ti.com/sc/ds/sn54ls160a.pdf
footprint W016 (DFP; 16 Leads; Body 10.9 x 7.2 mm (LxW max); Pitch 1.27 mm)
3D model W016 (DFP; 16 Leads; Body 10.9 x 7.2 mm (LxW max); Pitch 1.27 mm)
simulation model SN74LS162A (SIMCODE)
signal-integrity model SNJ54LS162AW
pins: 1 ~{CLR} (in), 2 CLK (in), 3 A (in), 4 B (in), 5 C (in), 6 D (in), 7 ENP (in), 8 GND (power), 9 ~{LD} (in), 10 ENT (in), 11 QD (out), 12 QC (out), 13 QB (out), 14 QA (out), 15 RCO (out), 16 VCC (power)

## SNJ54LS163AFK
designator U?
Synchronous 4-Bit Counter; Note: Pins 1, 6, 11 and 16 are NC & are not drawn.; Published: 8-Jun-2000; LatestRevisionDate: 17-Jul-2002; LatestRevisionNote: Re-released for DXP Platform.; DatasheetVersion: Mar-1988; PackageVersion: 1998; PackageReference: FK020; Publisher: Altium Limited; PackageDescription: Leadless Chip Carrier; 20 Terminals; Body 8.9 x 8.9 mm; ComponentLink1Description: Manufacturer Link; ComponentLink1URL: http://www.ti.com/; ComponentLink2Description: Datasheet; ComponentLink2URL: http://www-s.ti.com/sc/ds/sn74ls161a.pdf; ComponentLink3Description: URL Link1; ComponentLink3URL: http://focus.ti.com/docs/prod/folders/print/sn54ls163a.html
footprint FK020 (Leadless Chip Carrier; 20 Terminals; Body 8.9 x 8.9 mm)
simulation model SN74LS163A (SIMCODE)
signal-integrity model SNJ54LS163AFK
pins: 2 ~{CLR} (in), 3 CLK (in), 4 A (in), 5 B (in), 7 C (in), 8 D (in), 9 ENP (in), 10 GND (power), 12 ~{LD} (in), 13 ENT (in), 14 QD (out), 15 QC (out), 17 QB (out), 18 QA (out), 19 RCO (out), 20 VCC (power)

## SNJ54LS163AJ
designator U?
Synchronous 4-Bit Counter; Published: 8-Jun-2000; LatestRevisionDate: 04-Mar-2005; LatestRevisionNote: Stylized 3D Model Added.; DatasheetVersion: Mar-1988; PackageVersion: Jun-1999; PackageReference: J016; Publisher: Altium Limited; PackageDescription: DIP; 16 Leads; Row Spacing 7.62 mm; Pitch 2.54 mm; ComponentLink1Description: Manufacturer Link; ComponentLink1URL: http://www.ti.com/; ComponentLink2Description: Datasheet; ComponentLink2URL: http://www-s.ti.com/sc/ds/sn74ls161a.pdf; ComponentLink3Description: URL Link1; ComponentLink3URL: http://focus.ti.com/docs/prod/folders/print/sn54ls163a.html
footprint J016 (DIP; 16 Leads; Row Spacing 7.62 mm; Pitch 2.54 mm)
3D model J016 (DIP; 16 Leads; Row Spacing 7.62 mm; Pitch 2.54 mm)
simulation model SN74LS163A (SIMCODE)
signal-integrity model SNJ54LS163AJ
pins: 1 ~{RST} (in), 2 CLK (in), 3 P0 (in), 4 P1 (in), 5 P2 (in), 6 P3 (in), 7 CEP (in), 8 GND (power), 9 ~{PE} (in), 10 CET (in), 11 Q3 (out), 12 Q2 (out), 13 Q1 (out), 14 Q0 (out), 15 TC (out), 16 VCC (power)

## SNJ54LS163AW
designator U?
Synchronous 4-Bit Counter; Published: 8-Jun-2000; LatestRevisionDate: 04-Mar-2005; LatestRevisionNote: Stylized 3D Model Added.; DatasheetVersion: Mar-1988; PackageVersion: Jan-1995; PackageReference: W016; Publisher: Altium Limited; PackageDescription: DFP; 16 Leads; Body 10.9 x 7.2 mm (LxW max); Pitch 1.27 mm; Code_JEDEC: MO-092-AC; ComponentLink1Description: Manufacturer Link; ComponentLink1URL: http://www.ti.com/; ComponentLink2Description: Datasheet; ComponentLink2URL: http://www-s.ti.com/sc/ds/sn74ls161a.pdf; ComponentLink3Description: URL Link1; ComponentLink3URL: http://focus.ti.com/docs/prod/folders/print/sn54ls163a.html
footprint W016 (DFP; 16 Leads; Body 10.9 x 7.2 mm (LxW max); Pitch 1.27 mm)
3D model W016 (DFP; 16 Leads; Body 10.9 x 7.2 mm (LxW max); Pitch 1.27 mm)
simulation model SN74LS163A (SIMCODE)
signal-integrity model SNJ54LS163AW
pins: 1 ~{RST} (in), 2 CLK (in), 3 P0 (in), 4 P1 (in), 5 P2 (in), 6 P3 (in), 7 CEP (in), 8 GND (power), 9 ~{PE} (in), 10 CET (in), 11 Q3 (out), 12 Q2 (out), 13 Q1 (out), 14 Q0 (out), 15 TC (out), 16 VCC (power)

## SNJ54LS169BFK
designator U?
Synchronous 4-Bit Up/Down Binary Counter; Note: Pins 1, 6, 11 and 16 - no connection and not drawn.; Published: 8-Jun-2000; LatestRevisionDate: 17-Jul-2002; LatestRevisionNote: Re-released for DXP Platform.; DatasheetVersion: Mar-1988; PackageVersion: 1998; PackageReference: FK020; Publisher: Altium Limited; PackageDescription: Leadless Chip Carrier; 20 Terminals; Body 8.9 x 8.9 mm; ComponentLink1Description: Manufacturer Link; ComponentLink1URL: http://www.ti.com/; ComponentLink2Description: Datasheet; ComponentLink2URL: http://www-s.ti.com/sc/ds/sn74ls169b.pdf
footprint FK020 (Leadless Chip Carrier; 20 Terminals; Body 8.9 x 8.9 mm)
signal-integrity model SNJ54LS169BFK
pins: 2 U/~{D} (in), 3 CLK (in), 4 A (in), 5 B (in), 7 C (in), 8 D (in), 9 ~{ENP} (in), 10 GND (power), 12 ~{LD} (in), 13 ~{ENT} (in), 14 QD (out), 15 QC (out), 17 QB (out), 18 QA (out), 19 ~{RCO} (out), 20 VCC (power)

## SNJ54LS169BJ
designator U?
Synchronous 4-Bit Up/Down Binary Counter; Published: 8-Jun-2000; LatestRevisionDate: 04-Mar-2005; LatestRevisionNote: Stylized 3D Model Added.; DatasheetVersion: Mar-1988; PackageVersion: Jun-1999; PackageReference: J016; Publisher: Altium Limited; PackageDescription: DIP; 16 Leads; Row Spacing 7.62 mm; Pitch 2.54 mm; ComponentLink1Description: Manufacturer Link; ComponentLink1URL: http://www.ti.com/; ComponentLink2Description: Datasheet; ComponentLink2URL: http://www-s.ti.com/sc/ds/sn74ls169b.pdf
footprint J016 (DIP; 16 Leads; Row Spacing 7.62 mm; Pitch 2.54 mm)
3D model J016 (DIP; 16 Leads; Row Spacing 7.62 mm; Pitch 2.54 mm)
signal-integrity model SNJ54LS169BJ
pins: 1 U/~{D} (in), 2 CLK (in), 3 A (in), 4 B (in), 5 C (in), 6 D (in), 7 ~{ENP} (in), 8 GND (power), 9 ~{LD} (in), 10 ~{ENT} (in), 11 QD (out), 12 QC (out), 13 QB (out), 14 QA (out), 15 ~{RCO} (out), 16 VCC (power)

## SNJ54LS169BW
designator U?
Synchronous 4-Bit Up/Down Binary Counter; Published: 8-Jun-2000; LatestRevisionDate: 04-Mar-2005; LatestRevisionNote: Stylized 3D Model Added.; DatasheetVersion: Mar-1988; PackageVersion: Jan-1995; PackageReference: W016; Publisher: Altium Limited; PackageDescription: DFP; 16 Leads; Body 10.9 x 7.2 mm (LxW max); Pitch 1.27 mm; Code_JEDEC: MO-092-AC; ComponentLink1Description: Manufacturer Link; ComponentLink1URL: http://www.ti.com/; ComponentLink2Description: Datasheet; ComponentLink2URL: http://www-s.ti.com/sc/ds/sn74ls169b.pdf
footprint W016 (DFP; 16 Leads; Body 10.9 x 7.2 mm (LxW max); Pitch 1.27 mm)
3D model W016 (DFP; 16 Leads; Body 10.9 x 7.2 mm (LxW max); Pitch 1.27 mm)
signal-integrity model SNJ54LS169BW
pins: 1 U/~{D} (in), 2 CLK (in), 3 A (in), 4 B (in), 5 C (in), 6 D (in), 7 ~{ENP} (in), 8 GND (power), 9 ~{LD} (in), 10 ~{ENT} (in), 11 QD (out), 12 QC (out), 13 QB (out), 14 QA (out), 15 ~{RCO} (out), 16 VCC (power)

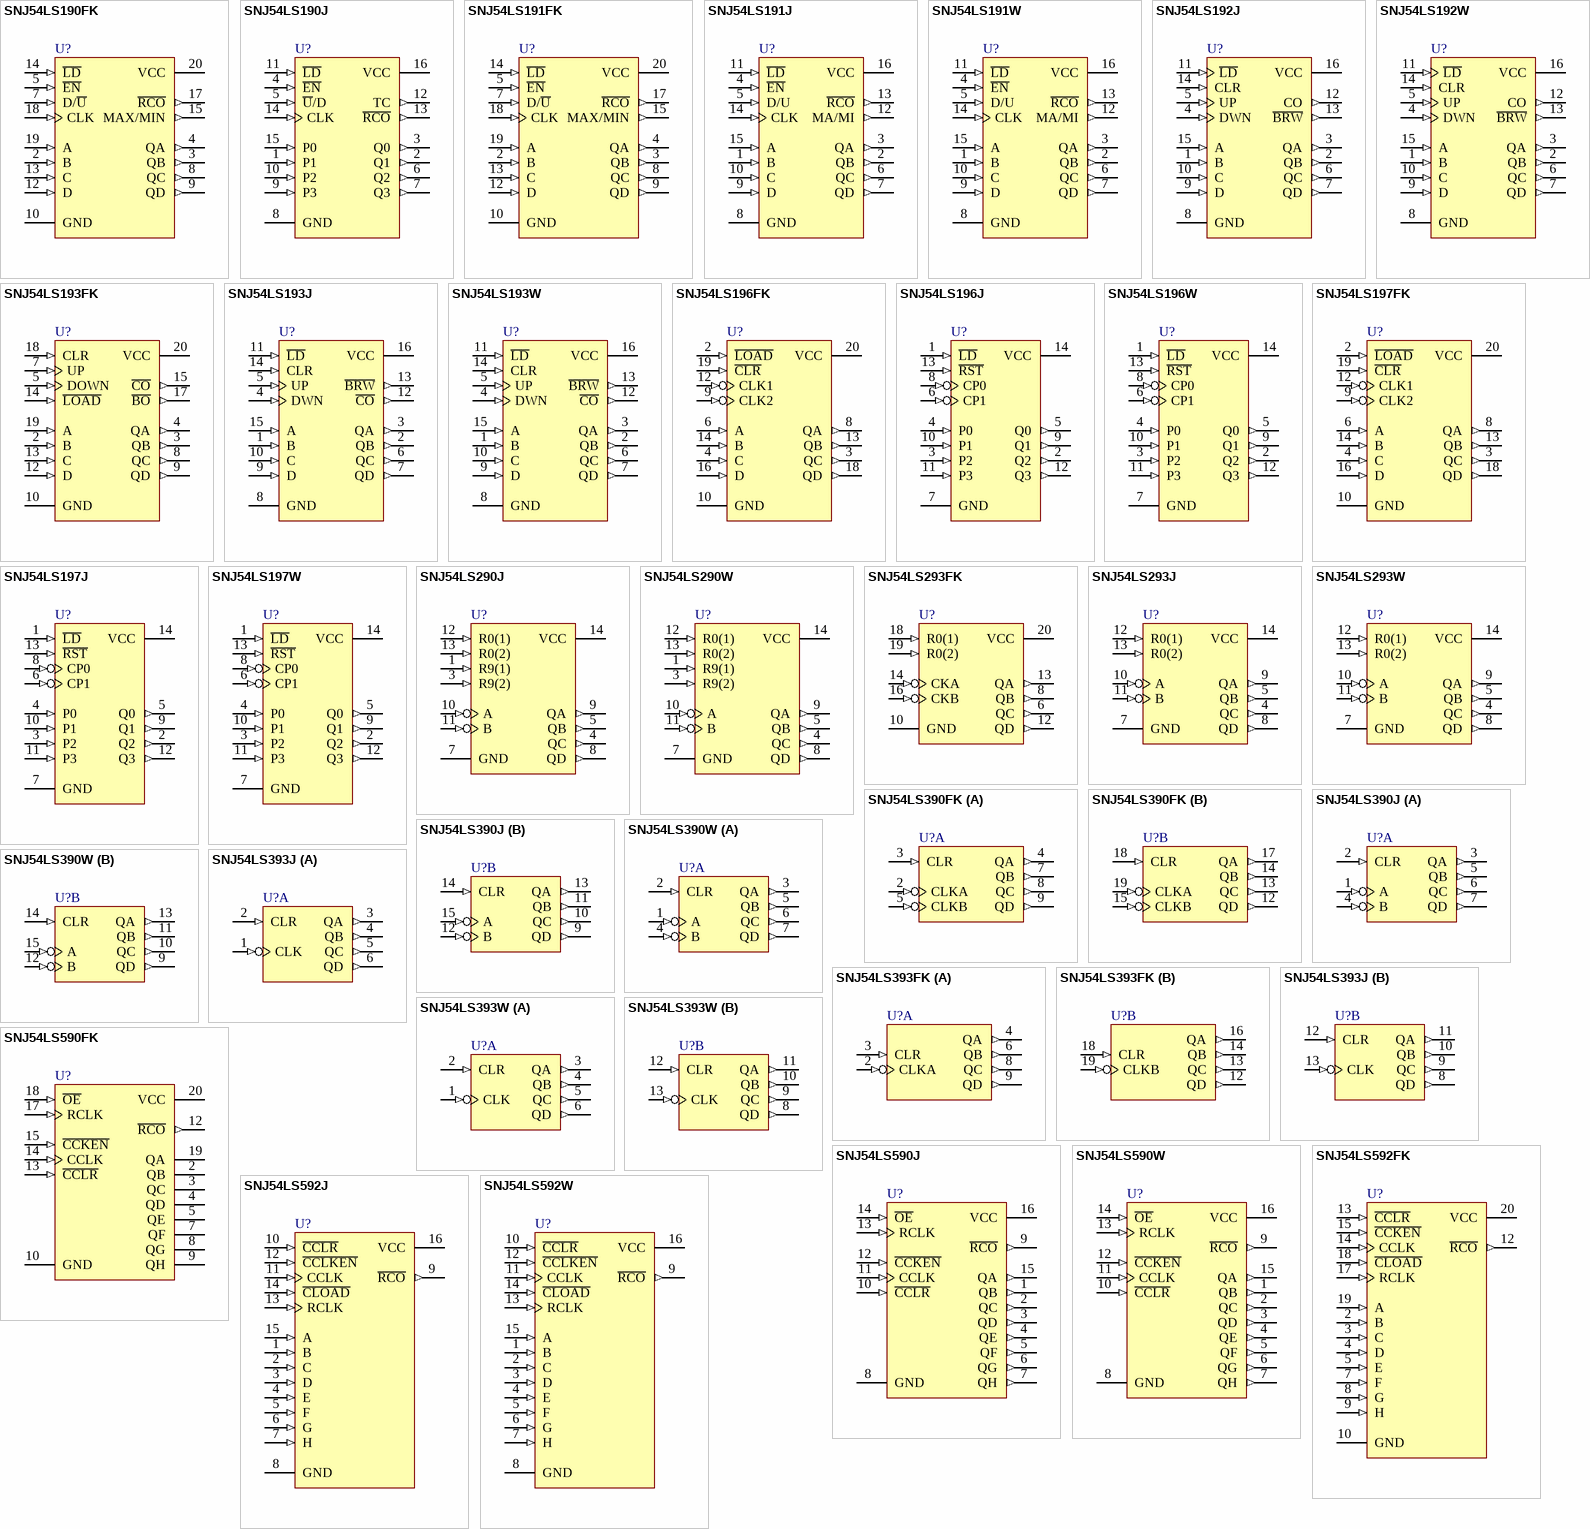
[diagram p18: symbols SNJ54LS190FK to SNJ54LS592W]

## SNJ54LS190FK
designator U?
Synchronous Up/Down Counter with Down/Up Mode Control; Note: Pins 1, 6, 11 and 16 are NC & are not drawn.; Published: 8-Jun-2000; LatestRevisionDate: 17-Jul-2002; LatestRevisionNote: Re-released for DXP Platform.; DatasheetVersion: Mar-1988; PackageVersion: 1998; PackageReference: FK020; Publisher: Altium Limited; PackageDescription: Leadless Chip Carrier; 20 Terminals; Body 8.9 x 8.9 mm; ComponentLink1Description: Manufacturer Link; ComponentLink1URL: http://www.ti.com/
footprint FK020 (Leadless Chip Carrier; 20 Terminals; Body 8.9 x 8.9 mm)
simulation model SN74LS190 (SIMCODE)
signal-integrity model SNJ54LS190FK
pins: 2 B (in), 3 QB (out), 4 QA (out), 5 ~{EN} (in), 7 D/~{U} (in), 8 QC (out), 9 QD (out), 10 GND (power), 12 D (in), 13 C (in), 14 ~{LD} (in), 15 MAX/MIN (out), 17 ~{RCO} (out), 18 CLK (in), 19 A (in), 20 VCC (power)

## SNJ54LS190J
designator U?
Synchronous Up/Down Counter with Down/Up Mode Control; Published: 8-Jun-2000; LatestRevisionDate: 04-Mar-2005; LatestRevisionNote: Stylized 3D Model Added.; DatasheetVersion: Mar-1988; PackageVersion: Jun-1999; PackageReference: J016D; Publisher: Altium Limited; PackageDescription: DIP; 16 Leads; Row Spacing 7.62 mm; Pitch 2.54 mm; ComponentLink1Description: Manufacturer Link; ComponentLink1URL: http://www.ti.com/
footprint J016D (DIP; 16 Leads; Row Spacing 7.62 mm; Pitch 2.54 mm)
3D model J016 (DIP; 16 Leads; Row Spacing 7.62 mm; Pitch 2.54 mm)
simulation model SN74LS190 (SIMCODE)
signal-integrity model SNJ54LS190J
pins: 1 P1 (in), 2 Q1 (out), 3 Q0 (out), 4 ~{EN} (in), 5 ~{U}/D (in), 6 Q2 (out), 7 Q3 (out), 8 GND (power), 9 P3 (in), 10 P2 (in), 11 ~{LD} (in), 12 TC (out), 13 ~{RCO} (out), 14 CLK (in), 15 P0 (in), 16 VCC (power)

## SNJ54LS191FK
designator U?
Synchronous Up/Down Counter with Down/Up Mode Control; Note: Pins 1, 6, 11 and 16 are NC & are not drawn.; Published: 8-Jun-2000; LatestRevisionDate: 17-Jul-2002; LatestRevisionNote: Re-released for DXP Platform.; DatasheetVersion: Mar-1988; PackageVersion: 1998; PackageReference: FK020; Publisher: Altium Limited; PackageDescription: Leadless Chip Carrier; 20 Terminals; Body 8.9 x 8.9 mm; ComponentLink1Description: Manufacturer Link; ComponentLink1URL: http://www.ti.com/; ComponentLink2Description: Datasheet; ComponentLink2URL: http://www-s.ti.com/sc/ds/sn74ls191.pdf; ComponentLink3Description: URL Link1; ComponentLink3URL: http://focus.ti.com/docs/prod/folders/print/sn54ls191.html
footprint FK020 (Leadless Chip Carrier; 20 Terminals; Body 8.9 x 8.9 mm)
simulation model SN74LS191 (SIMCODE)
signal-integrity model SNJ54LS191FK
pins: 2 B (in), 3 QB (out), 4 QA (out), 5 ~{EN} (in), 7 D/~{U} (in), 8 QC (out), 9 QD (out), 10 GND (power), 12 D (in), 13 C (in), 14 ~{LD} (in), 15 MAX/MIN (out), 17 ~{RCO} (out), 18 CLK (in), 19 A (in), 20 VCC (power)

## SNJ54LS191J
designator U?
Synchronous Up/Down Counter with Down/Up Mode Control; Published: 8-Jun-2000; LatestRevisionDate: 04-Mar-2005; LatestRevisionNote: Stylized 3D Model Added.; DatasheetVersion: Mar-1988; PackageVersion: Jun-1999; PackageReference: J016; Publisher: Altium Limited; PackageDescription: DIP; 16 Leads; Row Spacing 7.62 mm; Pitch 2.54 mm; ComponentLink1Description: Manufacturer Link; ComponentLink1URL: http://www.ti.com/; ComponentLink2Description: Datasheet; ComponentLink2URL: http://www-s.ti.com/sc/ds/sn74ls191.pdf; ComponentLink3Description: URL Link1; ComponentLink3URL: http://focus.ti.com/docs/prod/folders/print/sn54ls191.html
footprint J016 (DIP; 16 Leads; Row Spacing 7.62 mm; Pitch 2.54 mm)
3D model J016 (DIP; 16 Leads; Row Spacing 7.62 mm; Pitch 2.54 mm)
simulation model SN74LS191 (SIMCODE)
signal-integrity model SNJ54LS191J
pins: 1 B (in), 2 QB (out), 3 QA (out), 4 ~{EN} (in), 5 D/U (in), 6 QC (out), 7 QD (out), 8 GND (power), 9 D (in), 10 C (in), 11 ~{LD} (in), 12 MA/MI (out), 13 ~{RCO} (out), 14 CLK (in), 15 A (in), 16 VCC (power)

## SNJ54LS191W
designator U?
Synchronous Up/Down Counter with Down/Up Mode Control; Published: 8-Jun-2000; LatestRevisionDate: 04-Mar-2005; LatestRevisionNote: Stylized 3D Model Added.; DatasheetVersion: Mar-1988; PackageVersion: Jan-1995; PackageReference: W016; Publisher: Altium Limited; PackageDescription: DFP; 16 Leads; Body 10.9 x 7.2 mm (LxW max); Pitch 1.27 mm; Code_JEDEC: MO-092-AC; ComponentLink1Description: Manufacturer Link; ComponentLink1URL: http://www.ti.com/; ComponentLink2Description: Datasheet; ComponentLink2URL: http://www-s.ti.com/sc/ds/sn74ls191.pdf; ComponentLink3Description: URL Link1; ComponentLink3URL: http://focus.ti.com/docs/prod/folders/print/sn54ls191.html
footprint W016 (DFP; 16 Leads; Body 10.9 x 7.2 mm (LxW max); Pitch 1.27 mm)
3D model W016 (DFP; 16 Leads; Body 10.9 x 7.2 mm (LxW max); Pitch 1.27 mm)
simulation model SN74LS191 (SIMCODE)
signal-integrity model SNJ54LS191W
pins: 1 B (in), 2 QB (out), 3 QA (out), 4 ~{EN} (in), 5 D/U (in), 6 QC (out), 7 QD (out), 8 GND (power), 9 D (in), 10 C (in), 11 ~{LD} (in), 12 MA/MI (out), 13 ~{RCO} (out), 14 CLK (in), 15 A (in), 16 VCC (power)

## SNJ54LS192J
designator U?
Synchronous 4-Bit Up/Down Counter (Dual Clock with Clear); Published: 8-Jun-2000; LatestRevisionDate: 04-Mar-2005; LatestRevisionNote: Stylized 3D Model Added.; DatasheetVersion: Mar-1988; PackageVersion: Jun-1999; PackageReference: J016D; Publisher: Altium Limited; PackageDescription: DIP; 16 Leads; Row Spacing 7.62 mm; Pitch 2.54 mm; ComponentLink1Description: Manufacturer Link; ComponentLink1URL: http://www.ti.com/; ComponentLink2Description: Datasheet; ComponentLink2URL: http://www-s.ti.com/sc/ds/sn74ls192.pdf
footprint J016D (DIP; 16 Leads; Row Spacing 7.62 mm; Pitch 2.54 mm)
3D model J016 (DIP; 16 Leads; Row Spacing 7.62 mm; Pitch 2.54 mm)
simulation model SN74LS192 (SIMCODE)
signal-integrity model SNJ54LS192J
pins: 1 B (in), 2 QB (out), 3 QA (out), 4 DWN (in), 5 UP (in), 6 QC (out), 7 QD (out), 8 GND (power), 9 D (in), 10 C (in), 11 ~{LD} (in), 12 CO (out), 13 ~{BRW} (out), 14 CLR (in), 15 A (in), 16 VCC (power)

## SNJ54LS192W
designator U?
Synchronous 4-Bit Up/Down Counter (Dual Clock with Clear); Published: 8-Jun-2000; LatestRevisionDate: 04-Mar-2005; LatestRevisionNote: Stylized 3D Model Added.; DatasheetVersion: Mar-1988; PackageVersion: Jan-1995; PackageReference: W016; Publisher: Altium Limited; PackageDescription: DFP; 16 Leads; Body 10.9 x 7.2 mm (LxW max); Pitch 1.27 mm; Code_JEDEC: MO-092-AC; ComponentLink1Description: Manufacturer Link; ComponentLink1URL: http://www.ti.com/; ComponentLink2Description: Datasheet; ComponentLink2URL: http://www-s.ti.com/sc/ds/sn74ls192.pdf
footprint W016 (DFP; 16 Leads; Body 10.9 x 7.2 mm (LxW max); Pitch 1.27 mm)
3D model W016 (DFP; 16 Leads; Body 10.9 x 7.2 mm (LxW max); Pitch 1.27 mm)
simulation model SN74LS192 (SIMCODE)
signal-integrity model SNJ54LS192W
pins: 1 B (in), 2 QB (out), 3 QA (out), 4 DWN (in), 5 UP (in), 6 QC (out), 7 QD (out), 8 GND (power), 9 D (in), 10 C (in), 11 ~{LD} (in), 12 CO (out), 13 ~{BRW} (out), 14 CLR (in), 15 A (in), 16 VCC (power)

## SNJ54LS193FK
designator U?
Synchronous 4-Bit Up/Down Counter (Dual Clock with Clear); Note: Pins 1, 6, 11 and 16 are NC & are not drawn.; Published: 8-Jun-2000; LatestRevisionDate: 17-Jul-2002; LatestRevisionNote: Re-released for DXP Platform.; DatasheetVersion: Mar-1988; PackageVersion: 1998; PackageReference: FK020; Publisher: Altium Limited; PackageDescription: Leadless Chip Carrier; 20 Terminals; Body 8.9 x 8.9 mm; ComponentLink1Description: Manufacturer Link; ComponentLink1URL: http://www.ti.com/; ComponentLink2Description: Datasheet; ComponentLink2URL: http://www-s.ti.com/sc/ds/sn74ls192.pdf
footprint FK020 (Leadless Chip Carrier; 20 Terminals; Body 8.9 x 8.9 mm)
simulation model SN74LS193 (SIMCODE)
signal-integrity model SNJ54LS193FK
pins: 2 B (in), 3 QB (out), 4 QA (out), 5 DOWN (in), 7 UP (in), 8 QC (out), 9 QD (out), 10 GND (power), 12 D (in), 13 C (in), 14 ~{LOAD} (in), 15 ~{CO} (out), 17 ~{BO} (out), 18 CLR (in), 19 A (in), 20 VCC (power)

## SNJ54LS193J
designator U?
Synchronous 4-Bit Up/Down Counter (Dual Clock with Clear); Published: 8-Jun-2000; LatestRevisionDate: 04-Mar-2005; LatestRevisionNote: Stylized 3D Model Added.; DatasheetVersion: Mar-1988; PackageVersion: Jun-1999; PackageReference: J016D; Publisher: Altium Limited; PackageDescription: DIP; 16 Leads; Row Spacing 7.62 mm; Pitch 2.54 mm; ComponentLink1Description: Manufacturer Link; ComponentLink1URL: http://www.ti.com/; ComponentLink2Description: Datasheet; ComponentLink2URL: http://www-s.ti.com/sc/ds/sn74ls192.pdf
footprint J016D (DIP; 16 Leads; Row Spacing 7.62 mm; Pitch 2.54 mm)
3D model J016 (DIP; 16 Leads; Row Spacing 7.62 mm; Pitch 2.54 mm)
simulation model SN74LS193 (SIMCODE)
signal-integrity model SNJ54LS193J
pins: 1 B (in), 2 QB (out), 3 QA (out), 4 DWN (in), 5 UP (in), 6 QC (out), 7 QD (out), 8 GND (power), 9 D (in), 10 C (in), 11 ~{LD} (in), 12 ~{CO} (out), 13 ~{BRW} (out), 14 CLR (in), 15 A (in), 16 VCC (power)

## SNJ54LS193W
designator U?
Synchronous 4-Bit Up/Down Counter (Dual Clock with Clear); Published: 8-Jun-2000; LatestRevisionDate: 04-Mar-2005; LatestRevisionNote: Stylized 3D Model Added.; DatasheetVersion: Mar-1988; PackageVersion: Jan-1995; PackageReference: W016; Publisher: Altium Limited; PackageDescription: DFP; 16 Leads; Body 10.9 x 7.2 mm (LxW max); Pitch 1.27 mm; Code_JEDEC: MO-092-AC; ComponentLink1Description: Manufacturer Link; ComponentLink1URL: http://www.ti.com/; ComponentLink2Description: Datasheet; ComponentLink2URL: http://www-s.ti.com/sc/ds/sn74ls192.pdf
footprint W016 (DFP; 16 Leads; Body 10.9 x 7.2 mm (LxW max); Pitch 1.27 mm)
3D model W016 (DFP; 16 Leads; Body 10.9 x 7.2 mm (LxW max); Pitch 1.27 mm)
simulation model SN74LS193 (SIMCODE)
signal-integrity model SNJ54LS193W
pins: 1 B (in), 2 QB (out), 3 QA (out), 4 DWN (in), 5 UP (in), 6 QC (out), 7 QD (out), 8 GND (power), 9 D (in), 10 C (in), 11 ~{LD} (in), 12 ~{CO} (out), 13 ~{BRW} (out), 14 CLR (in), 15 A (in), 16 VCC (power)

## SNJ54LS196FK
designator U?
30-MHz Presettable Decade or Binary Counter / Latch; Note: Pins 1, 5, 7, 11, 15 and 17 - no connection and not drawn; Published: 8-Jun-2000; LatestRevisionDate: 17-Jul-2002; LatestRevisionNote: Re-released for DXP Platform.; DatasheetVersion: Mar-1988; PackageVersion: 1998; PackageReference: FK020; Publisher: Altium Limited; PackageDescription: Leadless Chip Carrier; 20 Terminals; Body 8.9 x 8.9 mm; ComponentLink1Description: Manufacturer Link; ComponentLink1URL: http://www.ti.com/
footprint FK020 (Leadless Chip Carrier; 20 Terminals; Body 8.9 x 8.9 mm)
signal-integrity model SNJ54LS196FK
pins: 2 ~{LOAD} (in), 3 QC (out), 4 C (in), 6 A (in), 8 QA (out), 9 CLK2 (in), 10 GND (power), 12 CLK1 (in), 13 QB (out), 14 B (in), 16 D (in), 18 QD (out), 19 ~{CLR} (in), 20 VCC (power)

## SNJ54LS196J
designator U?
30-MHz Presettable Decade or Binary Counter / Latch; Published: 8-Jun-2000; LatestRevisionDate: 04-Mar-2005; LatestRevisionNote: Stylized 3D Model Added.; DatasheetVersion: Mar-1988; PackageVersion: Jun-1999; PackageReference: J014D; Publisher: Altium Limited; PackageDescription: DIP; 14 Leads; Row Spacing 7.62 mm; Pitch 2.54 mm; ComponentLink1Description: Manufacturer Link; ComponentLink1URL: http://www.ti.com/
footprint J014D (DIP; 14 Leads; Row Spacing 7.62 mm; Pitch 2.54 mm)
3D model J014 (DIP; 14 Leads; Row Spacing 7.62 mm; Pitch 2.54 mm)
signal-integrity model SNJ54LS196J
pins: 1 ~{LD} (in), 2 Q2 (out), 3 P2 (in), 4 P0 (in), 5 Q0 (out), 6 CP1 (in), 7 GND (power), 8 CP0 (in), 9 Q1 (out), 10 P1 (in), 11 P3 (in), 12 Q3 (out), 13 ~{RST} (in), 14 VCC (power)

## SNJ54LS196W
designator U?
30-MHz Presettable Decade or Binary Counter / Latch; Published: 8-Jun-2000; LatestRevisionDate: 04-Mar-2005; LatestRevisionNote: Stylized 3D Model Added.; DatasheetVersion: Mar-1988; PackageVersion: Jan-1995; PackageReference: W014; Publisher: Altium Limited; PackageDescription: DFP; 14 Leads; Body 9.9 x 6.6 mm (LxW max); Pitch 1.27 mm; Code_JEDEC: MO-092-AB; ComponentLink1Description: Manufacturer Link; ComponentLink1URL: http://www.ti.com/
footprint W014 (DFP; 14 Leads; Body 9.9 x 6.6 mm (LxW max); Pitch 1.27 mm)
3D model W014 (DFP; 14 Leads; Body 9.9 x 6.6 mm (LxW max); Pitch 1.27 mm)
signal-integrity model SNJ54LS196W
pins: 1 ~{LD} (in), 2 Q2 (out), 3 P2 (in), 4 P0 (in), 5 Q0 (out), 6 CP1 (in), 7 GND (power), 8 CP0 (in), 9 Q1 (out), 10 P1 (in), 11 P3 (in), 12 Q3 (out), 13 ~{RST} (in), 14 VCC (power)

## SNJ54LS197FK
designator U?
30-MHz Presettable Binary Counter / Latch; Note: Pins 1, 5, 7, 11, 15 and 17 are NC & are not drawn.; ComponentAvailability: Obsolete; Published: 8-Jun-2000; LatestRevisionDate: 17-Jul-2002; LatestRevisionNote: Re-released for DXP Platform.; DatasheetVersion: Mar-1988; PackageVersion: 1998; PackageReference: FK020; Publisher: Altium Limited; PackageDescription: Leadless Chip Carrier; 20 Terminals; Body 8.9 x 8.9 mm; ComponentLink1Description: Manufacturer Link; ComponentLink1URL: http://www.ti.com/; ComponentLink2Description: Datasheet; ComponentLink2URL: http://www-s.ti.com/sc/ds/sn54196.pdf
footprint FK020 (Leadless Chip Carrier; 20 Terminals; Body 8.9 x 8.9 mm)
simulation model SN74LS197 (SIMCODE)
signal-integrity model SNJ54LS197FK
pins: 2 ~{LOAD} (in), 3 QC (out), 4 C (in), 6 A (in), 8 QA (out), 9 CLK2 (in), 10 GND (power), 12 CLK1 (in), 13 QB (out), 14 B (in), 16 D (in), 18 QD (out), 19 ~{CLR} (in), 20 VCC (power)

## SNJ54LS197J
designator U?
30-MHz Presettable Binary Counter / Latch; ComponentAvailability: Obsolete; Published: 8-Jun-2000; LatestRevisionDate: 04-Mar-2005; LatestRevisionNote: Stylized 3D Model Added.; DatasheetVersion: Mar-1988; PackageVersion: Jun-1999; PackageReference: J014; Publisher: Altium Limited; PackageDescription: DIP; 14 Leads; Row Spacing 7.62 mm; Pitch 2.54 mm; ComponentLink1Description: Manufacturer Link; ComponentLink1URL: http://www.ti.com/; ComponentLink2Description: Datasheet; ComponentLink2URL: http://www-s.ti.com/sc/ds/sn54196.pdf
footprint J014 (DIP; 14 Leads; Row Spacing 7.62 mm; Pitch 2.54 mm)
3D model J014 (DIP; 14 Leads; Row Spacing 7.62 mm; Pitch 2.54 mm)
simulation model SN74LS197 (SIMCODE)
signal-integrity model SNJ54LS197J
pins: 1 ~{LD} (in), 2 Q2 (out), 3 P2 (in), 4 P0 (in), 5 Q0 (out), 6 CP1 (in), 7 GND (power), 8 CP0 (in), 9 Q1 (out), 10 P1 (in), 11 P3 (in), 12 Q3 (out), 13 ~{RST} (in), 14 VCC (power)

## SNJ54LS197W
designator U?
30-MHz Presettable Binary Counter / Latch; ComponentAvailability: Obsolete; Published: 8-Jun-2000; LatestRevisionDate: 04-Mar-2005; LatestRevisionNote: Stylized 3D Model Added.; DatasheetVersion: Mar-1988; PackageVersion: Jan-1995; PackageReference: W014; Publisher: Altium Limited; PackageDescription: DFP; 14 Leads; Body 9.9 x 6.6 mm (LxW max); Pitch 1.27 mm; Code_JEDEC: MO-092-AB; ComponentLink1Description: Manufacturer Link; ComponentLink1URL: http://www.ti.com/; ComponentLink2Description: Datasheet; ComponentLink2URL: http://www-s.ti.com/sc/ds/sn54196.pdf
footprint W014 (DFP; 14 Leads; Body 9.9 x 6.6 mm (LxW max); Pitch 1.27 mm)
3D model W014 (DFP; 14 Leads; Body 9.9 x 6.6 mm (LxW max); Pitch 1.27 mm)
simulation model SN74LS197 (SIMCODE)
signal-integrity model SNJ54LS197W
pins: 1 ~{LD} (in), 2 Q2 (out), 3 P2 (in), 4 P0 (in), 5 Q0 (out), 6 CP1 (in), 7 GND (power), 8 CP0 (in), 9 Q1 (out), 10 P1 (in), 11 P3 (in), 12 Q3 (out), 13 ~{RST} (in), 14 VCC (power)

## SNJ54LS290J
designator U?
Decade Counter; Note: Pins 2, 6 are NC & are not drawn.; Published: 8-Jun-2000; LatestRevisionDate: 04-Mar-2005; LatestRevisionNote: Stylized 3D Model Added.; DatasheetVersion: Mar-1988; PackageVersion: Jun-1999; PackageReference: J014D; Publisher: Altium Limited; PackageDescription: DIP; 14 Leads; Row Spacing 7.62 mm; Pitch 2.54 mm; ComponentLink1Description: Manufacturer Link; ComponentLink1URL: http://www.ti.com/
footprint J014D (DIP; 14 Leads; Row Spacing 7.62 mm; Pitch 2.54 mm)
3D model J014 (DIP; 14 Leads; Row Spacing 7.62 mm; Pitch 2.54 mm)
simulation model SN74LS290 (SIMCODE)
signal-integrity model SNJ54LS290J
pins: 1 R9(1) (in), 3 R9(2) (in), 4 QC (out), 5 QB (out), 7 GND (power), 8 QD (out), 9 QA (out), 10 A (in), 11 B (in), 12 R0(1) (in), 13 R0(2) (in), 14 VCC (power)

## SNJ54LS290W
designator U?
Decade Counter; Note: Pins 2, 6 are NC & are not drawn.; Published: 8-Jun-2000; LatestRevisionDate: 04-Mar-2005; LatestRevisionNote: Stylized 3D Model Added.; DatasheetVersion: Mar-1988; PackageVersion: Jan-1995; PackageReference: W014; Publisher: Altium Limited; PackageDescription: DFP; 14 Leads; Body 9.9 x 6.6 mm (LxW max); Pitch 1.27 mm; Code_JEDEC: MO-092-AB; ComponentLink1Description: Manufacturer Link; ComponentLink1URL: http://www.ti.com/
footprint W014 (DFP; 14 Leads; Body 9.9 x 6.6 mm (LxW max); Pitch 1.27 mm)
3D model W014 (DFP; 14 Leads; Body 9.9 x 6.6 mm (LxW max); Pitch 1.27 mm)
simulation model SN74LS290 (SIMCODE)
signal-integrity model SNJ54LS290W
pins: 1 R9(1) (in), 3 R9(2) (in), 4 QC (out), 5 QB (out), 7 GND (power), 8 QD (out), 9 QA (out), 10 A (in), 11 B (in), 12 R0(1) (in), 13 R0(2) (in), 14 VCC (power)

## SNJ54LS293FK
designator U?
4-Bit Binary Counter; Note: Pins 1, 2, 3, 4, 5, 7, 9, 11, 15 and 17 are NC & are not drawn.; Published: 8-Jun-2000; LatestRevisionDate: 17-Jul-2002; LatestRevisionNote: Re-released for DXP Platform.; DatasheetVersion: Mar-1988; PackageVersion: 1998; PackageReference: FK020; Publisher: Altium Limited; PackageDescription: Leadless Chip Carrier; 20 Terminals; Body 8.9 x 8.9 mm; ComponentLink1Description: Manufacturer Link; ComponentLink1URL: http://www.ti.com/
footprint FK020 (Leadless Chip Carrier; 20 Terminals; Body 8.9 x 8.9 mm)
simulation model SN74LS293 (SIMCODE)
signal-integrity model SNJ54LS293FK
pins: 6 QC (out), 8 QB (out), 10 GND (power), 12 QD (out), 13 QA (out), 14 CKA (in), 16 CKB (in), 18 R0(1) (in), 19 R0(2) (in), 20 VCC (power)

## SNJ54LS293J
designator U?
4-Bit Binary Counter; Note: Pins 1, 2, 3 and 6 are NC & are not drawn.; Published: 8-Jun-2000; LatestRevisionDate: 04-Mar-2005; LatestRevisionNote: Stylized 3D Model Added.; DatasheetVersion: Mar-1988; PackageVersion: Jun-1999; PackageReference: J014D; Publisher: Altium Limited; PackageDescription: DIP; 14 Leads; Row Spacing 7.62 mm; Pitch 2.54 mm; ComponentLink1Description: Manufacturer Link; ComponentLink1URL: http://www.ti.com/
footprint J014D (DIP; 14 Leads; Row Spacing 7.62 mm; Pitch 2.54 mm)
3D model J014 (DIP; 14 Leads; Row Spacing 7.62 mm; Pitch 2.54 mm)
simulation model SN74LS293 (SIMCODE)
signal-integrity model SNJ54LS293J
pins: 4 QC (out), 5 QB (out), 7 GND (power), 8 QD (out), 9 QA (out), 10 A (in), 11 B (in), 12 R0(1) (in), 13 R0(2) (in), 14 VCC (power)